# Altium footprint library CAP_POLYS_22X7.PcbLib: 2 footprints
Each footprint in its own frame and in the unit in brackets; x right, y up, seen from the top. Pads: shape width x height; smd on the part's side, far side on the other; paste and mask are expansions set on the pad; w line width, h text height; cw(c..) or ccw(c..) is an arc to the next point about the centre after c.
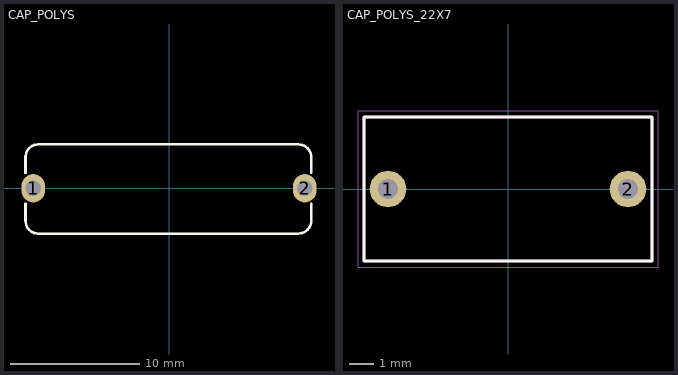
[diagram p0: the footprints below, top view; thin cyan lines are the x and y axes]

## CAP_POLYS [mm] "CAP, POLYESTER, 33.0X7.0mm pitch: 20.0mm, 10nF 400V"
pads (2):
  oval 1.8x2.2 hole 1.2: 1(-10.5,0) 2(10.5,0)
Top Overlay:
  lines w0.2: -11.1,-1.2 -11.1,-2.5 ccw(c-10.1,-2.5) -10.1,-3.5 10,-3.5 ccw(c10,-2.5) 11,-2.5 11,-1.2 ; -11.1,1.2 -11.1,2.5 ; -11.1,2.4 cw(c-10.1,2.4) -10.1,3.4 10,3.4 cw(c10,2.4) 11,2.4 ; 11,1.2 11,2.5
3D body "User Library-ECQE(F) 0_33uf 630Vdc 250Vac.step": height 19, standoff -3, extent -13,-3.9 13,3.9

## CAP_POLYS_22X7 [mm]
pads (2):
  round 1.524 hole 0.85: 1(-5,0) 2(5,0)
Top Overlay:
  lines w0.127: -6,-3 6,-3 6,3 -6,3 -6,-3
Mechanical 13:
  lines w0.127: -6,-3 -6,3 6,3 6,-3 -6,-3
Mechanical 15:
  lines w0.05: -6.25,-3.25 -6.25,3.25 6.25,3.25 6.25,-3.25 -6.25,-3.25
3D body "ECQ-E1684KF.STEP": height 12.9, standoff -19, extent -6.031,-3.333 5.969,2.667